# EAGLE library part LOGIC_LEVEL_CONVERTER (library logic_level)
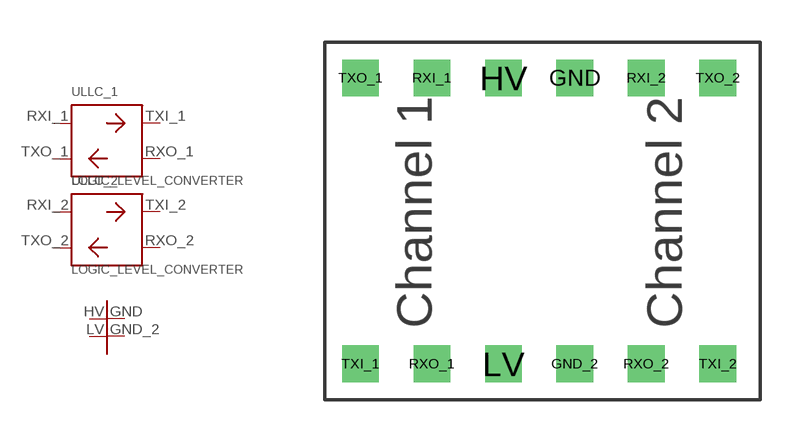
[diagram p0: symbol with the pads of LOGIC_LEVEL_CONVERTER_COMMON; footprint LOGIC_LEVEL_CONVERTER_COMMON]

Designator prefix -; gates LLC_1=LOGIC_LEVEL_CONVERTER LLC_2=LOGIC_LEVEL_CONVERTER G$1=LOGIC_LEVEL_CONVERTER_COMMON

## LOGIC_LEVEL_CONVERTER  [LOGIC_LEVEL_CONVERTER_COMMON]
GND  G$1:GND  in
GND_2  G$1:GND_2  in
HV  G$1:VCC_HV  pwr
LV  G$1:VCC_LV  pwr
RXI_1  LLC_1:
RXI_2  LLC_2:
RXO_1  LLC_1:P$4
RXO_2  LLC_2:P$4
TXI_1  LLC_1:P$3
TXI_2  LLC_2:P$3
TXO_1  LLC_1:P$2
TXO_2  LLC_2:P$2

## Footprint LOGIC_LEVEL_CONVERTER_COMMON (pad centres in mm)
drill 0.8 square: GND 1.27,5.08; GND_2 1.27,-5.08; HV -1.27,5.08; LV -1.27,-5.08; RXI_1 -3.81,5.08; RXI_2 3.81,5.08; RXO_1 -3.81,-5.08; RXO_2 3.81,-5.08; TXI_1 -6.35,-5.08; TXI_2 6.35,-5.08; TXO_1 -6.35,5.08; TXO_2 6.35,5.08